# EAGLE library part AVR_ICP (library m_misc)
AVR ICP Header AVR standard 6 pin ISP programming header, .1" spacing.
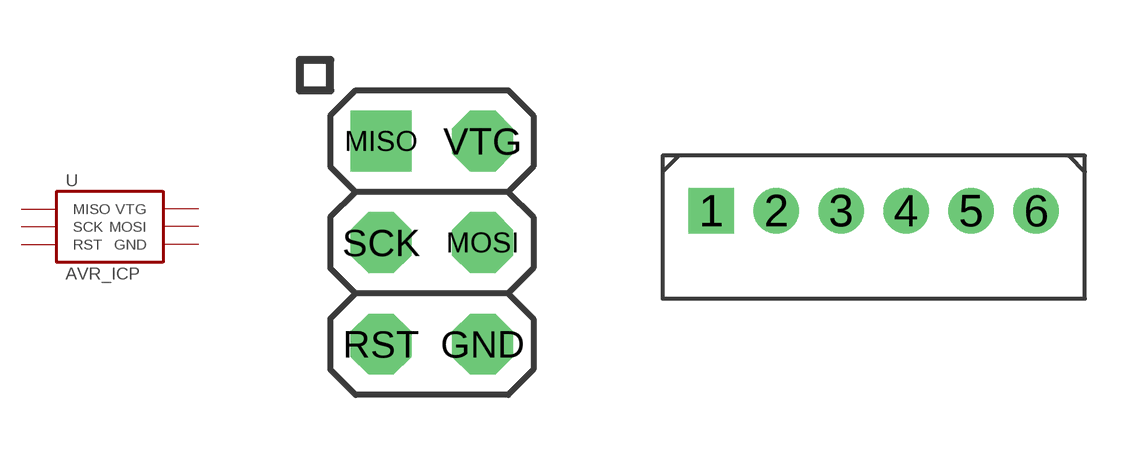
[diagram p7: symbol with the pads of AVR_ISP_6; footprints AVR_ISP_6, MICROBLADE2MM_6]

Designator prefix -

## AVR_ICPSTNADARD_0.1  [AVR_ISP_6]
GND  GND  pwr
MISO  MISO
MOSI  MOSI
RST  RST
SCK  SCK
VTG  VTG

## AVR_ICPMICROBLADE  [MICROBLADE2MM_6]
1  GND  pwr
2  MISO
3  MOSI
4  RST
5  SCK
6  VTG

## Footprint AVR_ISP_6 (pad centres in mm)
AVR ISP Header 6 pin
drill 1.016 octagon: GND 1.27,-2.54; MOSI 1.27,0; RST -1.27,-2.54; SCK -1.27,0; VTG 1.27,2.54
drill 1.016 square: MISO -1.27,2.54

## Footprint MICROBLADE2MM_6 (pad centres in mm)
drill 0.889 square: 1 -5,0
drill 0.889: 2 -3,0; 3 -1,0; 4 1,0; 5 3,0; 6 5,0